# EAGLE library part USB_TO_UART_DEV (library blizzard_board)
SINGLE-CHIP USB-TO-UART BRIDGE
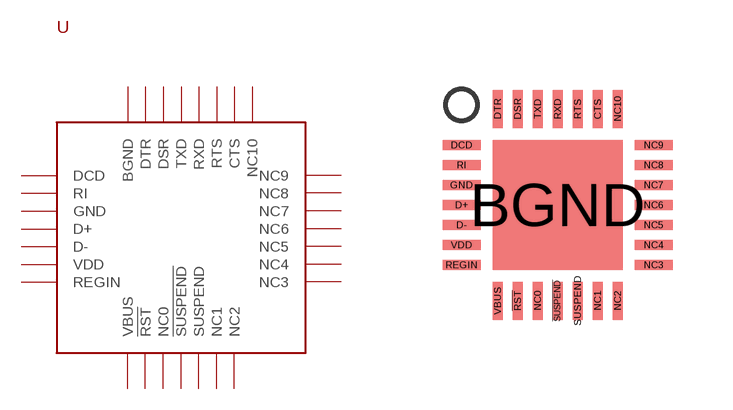
[diagram p0: symbol with the pads of QFN_28_PKG; footprint QFN_28_PKG]

Designator prefix U

## USB_TO_UART_DEV  [QFN_28_PKG]
!RST  !RST
!SUSPEND  !SUSPEND
BGND  BGND
CTS  CTS
D+  D+
D-  D-
DCD  DCD
DSR  DSR
DTR  DTR
GND  GND
NC0  NC0
NC1  NC1
NC2  NC2
NC3  NC3
NC4  NC4
NC5  NC5
NC6  NC6
NC7  NC7
NC8  NC8
NC9  NC9
NC10  NC10
REGIN  REGIN
RI  RI
RTS  RTS
RXD  RXD
SUSPEND  SUSPEND
TXD  TXD
VBUS  VBUS
VDD  VDD

## Footprint QFN_28_PKG (pad centres in mm)
QFN-28
smd 0.25 x 0.95: !RST 1.4,-3.9; !SUSPEND 2.4,-3.9; CTS 3.4,0.9; DSR 1.4,0.9; DTR 0.9,0.9; NC0 1.9,-3.9; NC1 3.4,-3.9; NC2 3.9,-3.9; NC10 3.9,0.9; RTS 2.9,0.9; RXD 2.4,0.9; SUSPEND 2.9,-3.9; TXD 1.9,0.9; VBUS 0.9,-3.9
smd 3.25 x 3.25: BGND 2.4,-1.5
smd 0.95 x 0.25: D+ 0,-1.5; D- 0,-2; DCD 0,0; GND 0,-1; NC3 4.8,-3; NC4 4.8,-2.5; NC5 4.8,-2; NC6 4.8,-1.5; NC7 4.8,-1; NC8 4.8,-0.5; NC9 4.8,0; REGIN 0,-3; RI 0,-0.5; VDD 0,-2.5